# Altium schematic symbol library PI3USB4000DZUAEX.SchLib: 1 symbol
Pins are listed as number, name and electrical type; pins without a type are passive.

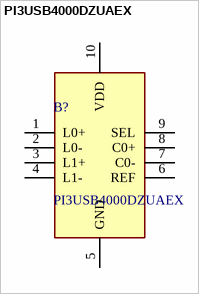
[diagram p0: symbol PI3USB4000DZUAEX]

## PI3USB4000DZUAEX
designator B?
USB Switch ICs USB2 Switch U-QFN1520-10 T&R 3K; Manufacturer_Name: Diodes Incorporated; Geometry.Height: 0.65mm; Mouser Part Number: 621-PI3USB4000D; Mouser Price/Stock: https://www.mouser.co.uk/ProductDetail/Diodes-Incorporated/PI3USB4000DZUAEX?qs=DPoM0jnrROWMqM4Usw1VHA%3D%3D; Manufacturer_Part_Number: PI3USB4000DZUAEX; Datasheet Link: https://www.diodes.com//assets/Datasheets/PI3USB4000D.pdf
footprint PI3USB4000DZUAEX
pins: 1 L0+, 2 L0-, 3 L1+, 4 L1-, 5 GND, 6 REF, 7 C0-, 8 C0+, 9 SEL, 10 VDD